# Altium footprint library LM2596S.PcbLib: 1 footprints
Each footprint in its own frame and in the unit in brackets; x right, y up, seen from the top. Pads: shape width x height; smd on the part's side, far side on the other; paste and mask are expansions set on the pad; w line width, h text height; cw(c..) or ccw(c..) is an arc to the next point about the centre after c.
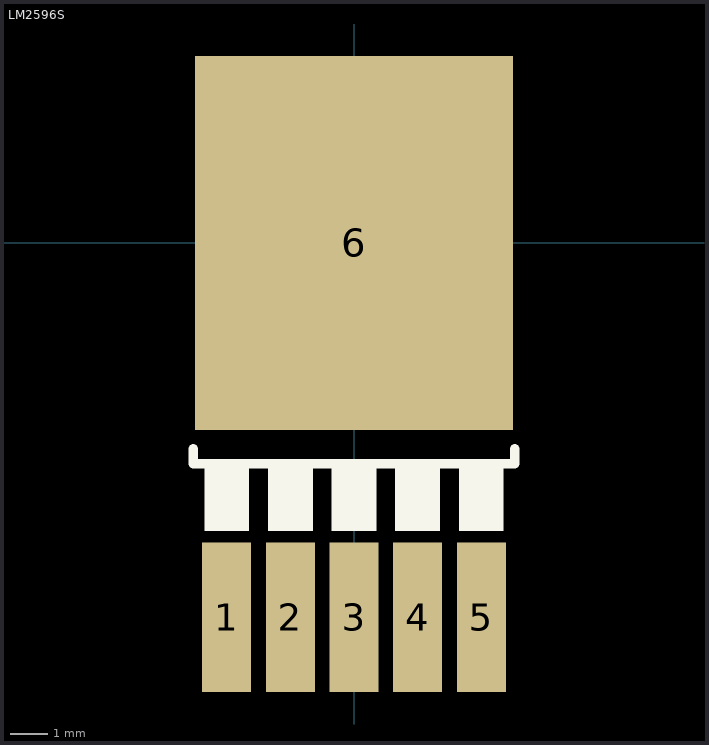
[diagram p0: the footprint, top view; thin cyan lines are the x and y axes]

## LM2596S [mm]
pads (6):
  rect 1.31x4 smd: 1(-3.4,-10) 2(-1.7,-10) 3(0,-10) 4(1.7,-10) 5(3.4,-10)
  rect 8.5x10 smd: 6(0,0)
Top Overlay:
  rectangle: 2.8,-7.7 4,-5.9
  rectangle: 1.1,-7.7 2.3,-5.9
  rectangle: -0.6,-7.7 0.6,-5.9
  rectangle: -2.3,-7.7 -1.1,-5.9
  rectangle: -4,-7.7 -2.8,-5.9
  lines w0.254: -4.3,-5.5 -4.3,-5.9 4.3,-5.9 4.3,-5.5
3D body "TO-263-5.STEP": height 4.57, standoff -0.03, extent -5.368,-11.737 5.3,4.137